# EAGLE library part DIP204B-4NLW (library DIP204B-4NLW)
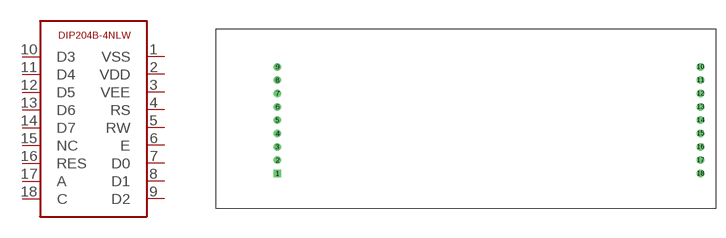
[diagram p0: symbol with the pads of DIP204B-4NLW; footprint DIP204B-4NLW]

Designator prefix -

## DIP204B-4NLW  [DIP204B-4NLW]
1  VSS  pas
2  VDD  pwr
3  VEE  in
4  RS  in
5  RW  in
6  E  in
7  D0  in
8  D1  in
9  D2  in
10  D3  in
11  D4  in
12  D5  in
13  D6  in
14  D7  in
15  NC  in
16  RES  in
17  A  in
18  C  in

## Footprint DIP204B-4NLW (pad centres in mm)
drill 0.6 square: 1 9.25,5.25
drill 0.6 round: 2 9.25,7.25; 3 9.25,9.25; 4 9.25,11.25; 5 9.25,13.25; 6 9.25,15.25; 7 9.25,17.25; 8 9.25,19.25; 9 9.25,21.25; 10 72.75,21.25; 11 72.75,19.25; 12 72.75,17.25; 13 72.75,15.25; 14 72.75,13.25; 15 72.75,11.25; 16 72.75,9.25; 17 72.75,7.25; 18 72.75,5.25